# Altium footprint library Y 液晶屏.PcbLib: 2 footprints
Each footprint in its own frame and in the unit in brackets; x right, y up, seen from the top. Pads: shape width x height; smd on the part's side, far side on the other; paste and mask are expansions set on the pad; w line width, h text height; cw(c..) or ccw(c..) is an arc to the next point about the centre after c.
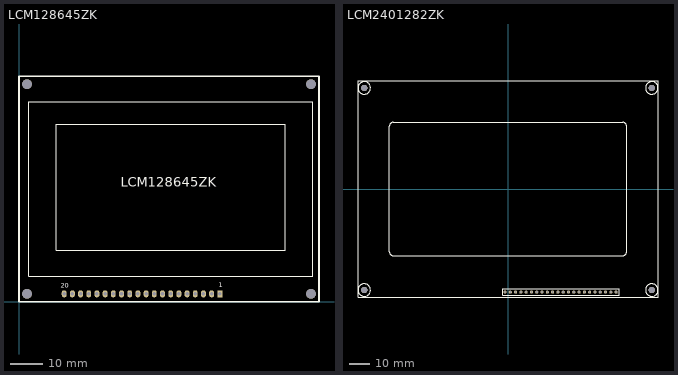
[diagram p0: the footprints below, top view; thin cyan lines are the x and y axes]

## LCM128645ZK [mm] "12864液晶,北京青云创新"
pads (24):
  rect 1.5x2.2 hole 1.1: 1(62.26,2.5)
  oval 1.5x2.2 hole 1.1: 2(59.72,2.5) 3(57.18,2.5) 4(54.64,2.5) 5(52.1,2.5) 6(49.56,2.5) 7(47.02,2.5) 8(44.48,2.5) 9(41.94,2.5) 10(39.4,2.5) 11(36.86,2.5) 12(34.32,2.5) 13(31.78,2.5) 14(29.24,2.5) 15(26.7,2.5) 16(24.16,2.5) 17(21.62,2.5) 18(19.08,2.5) 19(16.54,2.5) 20(14,2.5)
  round 3 hole 3: ""(2.5,2.5) ""(2.5,67.5) ""(90.5,2.5) ""(90.5,67.5)
Top Overlay:
  lines w0.127: 3,8 91,8 91,62 3,62 3,8 ; 11.5,16 82.5,16 82.5,55 11.5,55 11.5,16
  lines w0.5: 0,0 93,0 93,70 0,70 0,0
  text "20" at 12.954,3.81 h2.54
  text "1" at 61.976,3.937 h2.54
  text "LCM128645ZK" at 31.496,34.544 h5.08

## LCM2401282ZK [mm]
pads (26):
  round 1.5 hole 1: 1(51.9,-49.5) 2(49.36,-49.5) 3(46.82,-49.5) 4(44.28,-49.5) 5(41.74,-49.5) 6(39.2,-49.5) 7(36.66,-49.5) 8(34.12,-49.5) 9(31.58,-49.5) 10(29.04,-49.5) 11(26.5,-49.5) 12(23.96,-49.5) 13(21.42,-49.5) 14(18.88,-49.5) 15(16.34,-49.5) 16(13.8,-49.5) 17(11.26,-49.5) 18(8.72,-49.5) 19(6.18,-49.5) 20(3.64,-49.5) 21(1.1,-49.5) 22(-1.44,-49.5)
  round 3 hole 3: ""(-69,-48.5) ""(-69,48.5) ""(69,-48.5) ""(69,48.5)
Top Overlay:
  circle w0.127: c69,48.5 r3
  circle w0.127: c69,-48.5 r3
  circle w0.127: c-69,-48.5 r3
  circle w0.127: c-69,48.5 r3
  lines w0.1: -57,-30 -57,30 ; -55.044,32 55,32 ; -55,-32 55,-32 ; 57,-30 57,30 ; -72,-52 -72,52 72,52 72,-52 -72,-52
  lines w0.127: -57,-30 ccw(c-55,-30) -55,-32 ; -57,30 cw(c-55,30) -55,32 ; 55,-32 ccw(c55,-30) 57,-30 ; 55,32 cw(c55,30) 57,30 ; -2.6,-51 53.4,-51 53.4,-48 -2.6,-48 -2.6,-51